# Altium footprint library 3221-10-0100-00.PcbLib: 1 footprints
Each footprint in its own frame and in the unit in brackets; x right, y up, seen from the top. Pads: shape width x height; smd on the part's side, far side on the other; paste and mask are expansions set on the pad; w line width, h text height; cw(c..) or ccw(c..) is an arc to the next point about the centre after c.
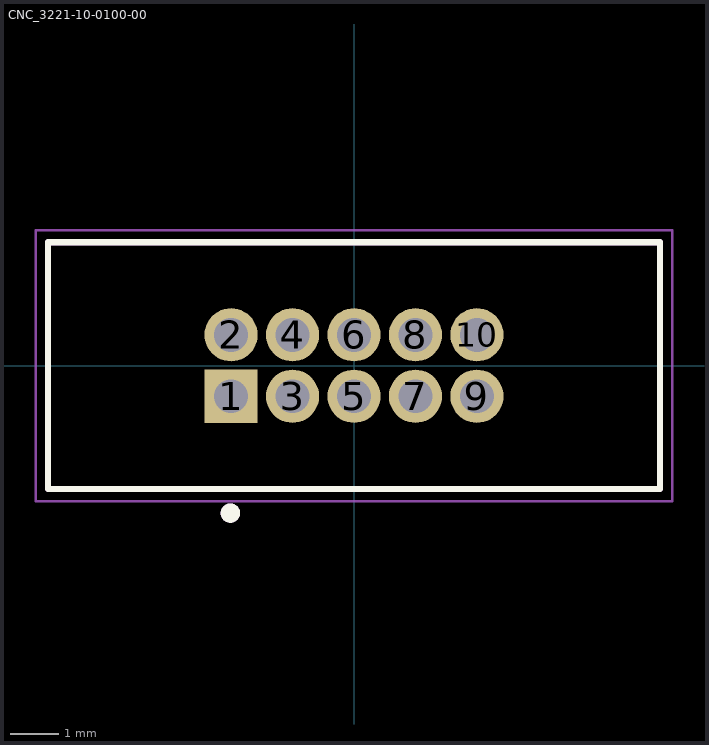
[diagram p0: the footprint, top view; thin cyan lines are the x and y axes]

## CNC_3221-10-0100-00 [mm]
pads (10):
  rect 1.1x1.1 hole 0.7: 1(-2.54,-0.635)
  round 1.1 hole 0.7: 2(-2.54,0.635) 3(-1.27,-0.635) 4(-1.27,0.635) 5(0,-0.635) 6(0,0.635) 7(1.27,-0.635) 8(1.27,0.635) 9(2.54,-0.635) 10(2.54,0.635)
Top Overlay:
  circle w0.2: c-2.555,-3.048 r0.1
  lines w0.127: -6.325,-2.55 -6.325,2.55 6.325,2.55 6.325,-2.55 -6.325,-2.55
Mechanical 13:
  circle w0.2: c-2.555,-3.048 r0.1
  lines w0.127: -6.325,-2.55 -6.325,2.55 6.325,2.55 6.325,-2.55 -6.325,-2.55
Mechanical 15:
  lines w0.05: -6.575,-2.8 6.575,-2.8 6.575,2.8 -6.575,2.8 -6.575,-2.8